# Altium schematic symbol library EL-sense_Atmel.SchLib: 1 symbol
Pins are listed as number, name and electrical type; pins without a type are passive.

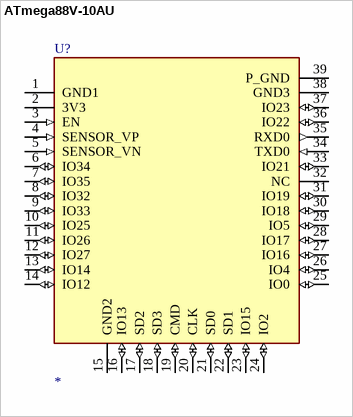
[diagram p0: symbol ATmega88V-10AU]

## ATmega88V-10AU
designator U?
AVR series Microcontroller IC 8-Bit / Voltage - Supply 1.8V ~ 5.5V / Speed 10MHz / Program Memory Size 8KB (4K x 16) / Package / Case 32-TQFP / Serial Interfaces GPIO, I²C, I²S, PWM, SDIO, SPI, UART; Manufacturer: Microchip Technology; ComponentLink1Description: HelpURL; ComponentLink1URL: https://static.chipdip.ru/lib/547/DOC005547852.pdf; Case: 32-TQFP; Supplier 1: Digi-Key; Supplier Part Number 1: ATMEGA88V-10AU-ND
pins: 1 GND1 (power), 2 3V3 (power), 3 EN (in), 4 SENSOR_VP (in), 5 SENSOR_VN (in), 6 IO34 (io), 7 IO35 (io), 8 IO32 (io), 9 IO33 (io), 10 IO25 (io), 11 IO26 (io), 12 IO27 (io), 13 IO14 (io), 14 IO12 (io), 15 GND2 (power), 16 IO13 (io), 17 SD2 (io), 18 SD3 (io), 19 CMD (io), 20 CLK (io), 21 SD0 (io), 22 SD1 (io), 23 IO15 (io), 24 IO2 (io), 25 IO0 (io), 26 IO4 (io), 27 IO16 (io), 28 IO17 (io), 29 IO5 (io), 30 IO18 (io), 31 IO19 (io), 32 NC, 33 IO21 (io), 34 TXD0 (in), 35 RXD0 (out), 36 IO22 (io), 37 IO23 (io), 38 GND3 (power), 39 P_GND (power)